# Altium footprint library oscillator.PcbLib: 3 footprints
Each footprint in its own frame and in the unit in brackets; x right, y up, seen from the top. Pads: shape width x height; smd on the part's side, far side on the other; paste and mask are expansions set on the pad; w line width, h text height; cw(c..) or ccw(c..) is an arc to the next point about the centre after c.
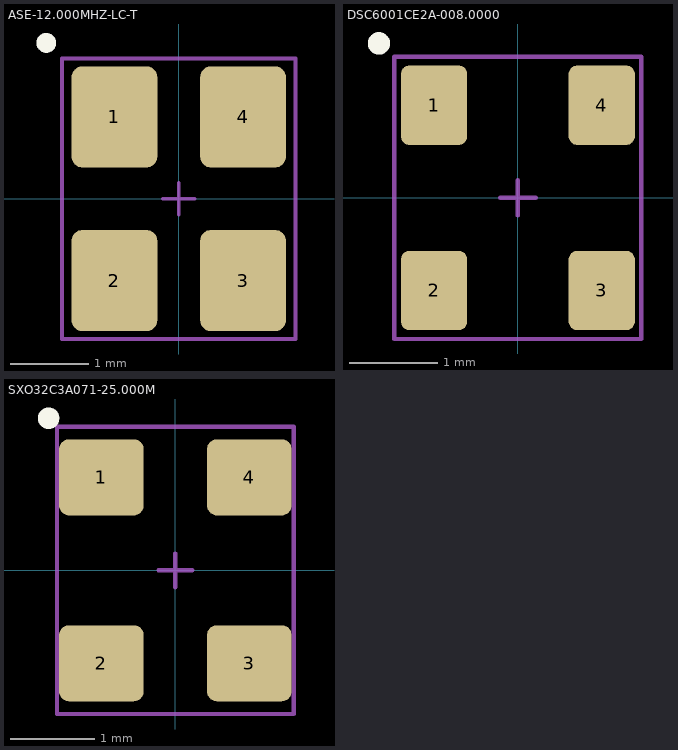
[diagram p0: the footprints below, top view; thin cyan lines are the x and y axes]

## ASE-12.000MHZ-LC-T [mm]
pads (4):
  rrect25% 1.1x1.3 smd: 1(-0.825,1.05) 2(-0.825,-1.05) 3(0.825,-1.05) 4(0.825,1.05)
Top Overlay:
  circle w0.154: c-1.7,2 r0.05
Top Assembly:
  lines w0.05: -1.5,-1.8 -1.5,1.8 1.5,1.8 1.5,-1.8 -1.5,-1.8
Top Placement:
  lines w0.05: -0.2,0 0.2,0 ; 0,-0.2 0,0.2 ; -1.5,-1.8 -1.5,1.8 1.5,1.8 1.5,-1.8 -1.5,-1.8
3D body "User Library-CDFN3225(1).step": height 0.9, standoff 0, extent -1.25,-1.6 1.25,1.6

## DSC6001CE2A-008.0000 [mm]
pads (4):
  rrect25% 0.75x0.9 smd: 1(-0.95,1.05) 2(-0.95,-1.05) 3(0.95,-1.05) 4(0.95,1.05)
Top Overlay:
  circle w0.154: c-1.575,1.75 r0.05
Top Assembly:
  lines w0.05: -1.4,-1.6 1.4,-1.6 1.4,1.6 -1.4,1.6 -1.4,-1.6
Top Placement:
  lines w0.05: -0.2,0 0.2,0 ; 0,-0.2 0,0.2 ; -1.4,-1.6 1.4,-1.6 1.4,1.6 -1.4,1.6 -1.4,-1.6
3D body "User Library-CDFN3225(1).step": height 0.85, standoff -0.05, extent -1.25,-1.6 1.25,1.6

## SXO32C3A071-25.000M [mm]
pads (4):
  rrect25% 1x0.9 smd: 1(-0.875,1.1) 2(-0.875,-1.1) 3(0.875,-1.1) 4(0.875,1.1)
Top Overlay:
  circle w0.154: c-1.5,1.8 r0.05
Top Assembly:
  lines w0.05: -1.4,-1.7 -1.4,1.7 1.4,1.7 1.4,-1.7 -1.4,-1.7
Top Placement:
  lines w0.05: -0.2,0 0.2,0 ; 0,-0.2 0,0.2 ; -1.4,-1.7 -1.4,1.7 1.4,1.7 1.4,-1.7 -1.4,-1.7
3D body "User Library-CDFN3225(1).step": height 0.85, standoff -0.05, extent -1.25,-1.6 1.25,1.6